# Altium schematic symbol library Other.SchLib: 9 symbols
Pins are listed as number, name and electrical type; pins without a type are passive.

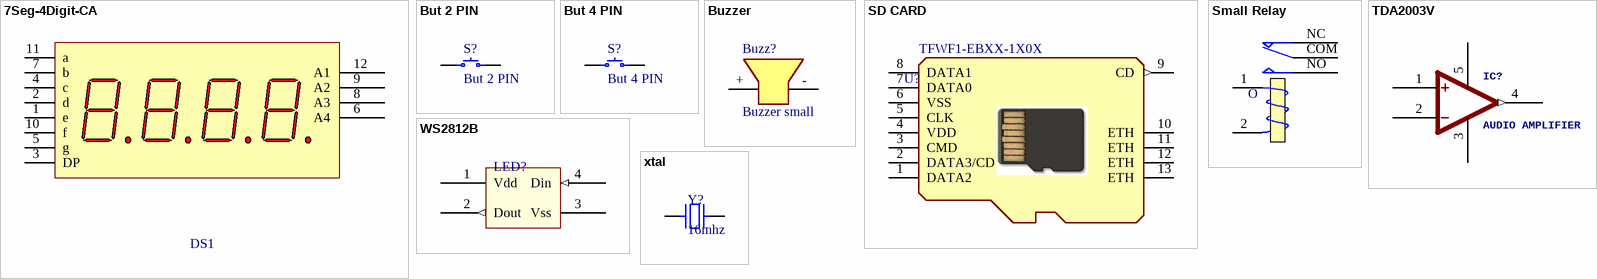
[diagram p0: symbols 7Seg-4Digit-CA to xtal]

## 7Seg-4Digit-CA
designator DS1, comment 7Segment-4Digit-CA  (value not drawn)
7-Segment Display: CA
footprint 7segCA (7seg-CA; 12 Leads)
pins: 1 e "Cathode", 2 d "Cathode", 3 DP "Cathode", 4 c "Cathode", 5 g "Cathode", 6 A4, 7 b "Cathode", 8 A3, 9 A2, 10 f "Cathode", 11 a "Cathode", 12 A1

## But 2 PIN
designator S?
footprint TE FSMSMTR
pins: 1, 2

## But 4 PIN
designator S?
footprint TE FSM4JSMA
pins: 1, 2, 3, 4

## Buzzer
designator Buzz?, comment Buzzer small
5-12v small buzzer (12mm)
footprint Buzzer
pins: + 1 (power), - 2 (power)

## SD CARD
designator U?, comment TFWF1-EBXX-1X0X
T-Flash 8pin SMT; Manufacturer: Wellco T&C Co., Ltd.; Link to Datasheet: *; Link to Picture: *; Operating Temp: *; Rating: *; Stability Frequency: *; Storage Temp: *; Tolerance: *; ComponentLink1Description: *; ComponentLink1URL: *; Manufacture Part #: TFWF1-EBXX-1X0X; Value: TFWF1-EBXX-1X0X
footprint SD CARD (T-FLASH PUSH-PUSH)
pins: 1 DATA2, 2 DATA3/CD, 3 CMD, 4 VDD, 5 CLK, 6 VSS, 7 DATA0, 8 DATA1, 9 CD (out), 10 ETH, 11 ETH, 12 ETH, 13 ETH
text: Card Bottom View

## Small Relay
designator O, comment relay  (value not drawn)
12V SMALL; Manufacturer: TIANBO; Manufacture Part #: HJR-78F-12VDC-S-Z; Rating: 7A, 120VAC; Link to Datasheet: *; Link to Picture: *; Operating Temp: -40°C to +85°C; Storage Temp: -40°C to +105°C; Tolerance: *; ComponentLink1Description: *; ComponentLink1URL: *; Value: 12V SMALL
footprint Relay_5_Small
pins: 1, 2, COM, NC, NO

## TDA2003V
designator IC?, comment AUDIO AMPLIFIER
GateName_1: A; SymbolName_1: OPAMP+GN; DeviceName: V; DeviceSetName: TDA2003; MF: Vishay Semiconductor; LibraryName: TDA2003; Package: CB360; Package: Pentawatt-5 Vishay Semiconductor; Price: None; MP: TDA2003; Availability: Unavailable
footprint TDA2003 (FM, 5-Leads, Body 10.2x4.7mm, Pitch 1.7mm)
pins: 1 +IN, 2 -IN, 3 GND (power), 4 OUT (out), 5 V+ (power)

## WS2812B
designator LED?  (value not drawn)
footprint WS2812B
pins: 1 Vdd (power), 2 Dout (out), 3 Vss (power), 4 Din (in)

## xtal
designator Y?, comment 16mhz
SMT Crystal
footprint xtal (Crystal, 2-Leads, Body 4.70x11.40mm, Pitch 8.80mm, IPC Medium Density)
footprint xtal-dip
pins: 1, 2